# EAGLE library part TYPE-C-4PINPLUG-INBOARD-16PBOARD (library Insight Solutions-Connectors)
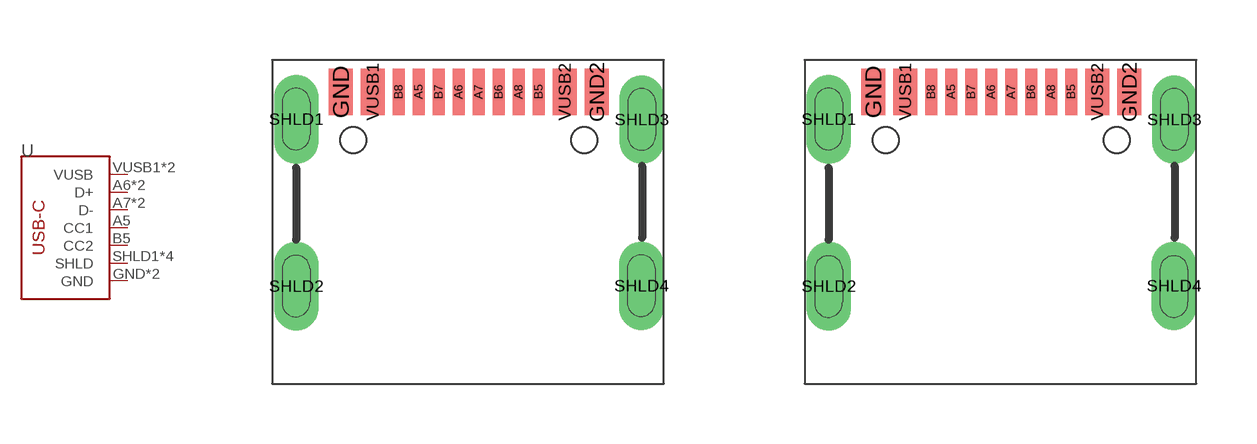
[diagram p0: symbol with the pads of TYPE-C-4PINPLUG-INBOARD-16PBOAR-4LAYERS; footprints TYPE-C-4PINPLUG-INBOARD-16PBOAR-4LAYERS, TYPE-C-4PINPLUG-INBOARD-16PBOAR-2LAYERS]

Designator prefix U

## TYPE-C-4PINPLUG-INBOARD-16PBOARD4LAYERS  [TYPE-C-4PINPLUG-INBOARD-16PBOAR-4LAYERS]
A5  CC1  pas
A6  D+  pas
A7  D-  pas
B5  CC2  pas
B6  D+  pas
B7  D-  pas
GND  GND  pas
GND2  GND  pas
SHLD1  SHLD  pas
SHLD2  SHLD  pas
SHLD3  SHLD  pas
SHLD4  SHLD  pas
VUSB1  VUSB  pas
VUSB2  VUSB  pas

## TYPE-C-4PINPLUG-INBOARD-16PBOARD2LAYERS  [TYPE-C-4PINPLUG-INBOARD-16PBOAR-2LAYERS]
Pads as for TYPE-C-4PINPLUG-INBOARD-16PBOAR-4LAYERS

## Footprint TYPE-C-4PINPLUG-INBOARD-16PBOAR-4LAYERS (pad centres in mm)
smd 0.3 x 1.15: A5 3.07,4.9; A6 4.07,4.9; A7 4.57,4.9; A8 5.57,4.9; B5 6.07,4.9; B6 5.07,4.9; B7 3.57,4.9; B8 2.57,4.9
smd 0.6 x 1.15: GND 1.12,4.9; GND2 7.52,4.9; VUSB1 1.92,4.9; VUSB2 6.72,4.9
drill 0.6 pad 0.9 long: SHLD1 0,4.215; SHLD2 0,0.035; SHLD3 8.64,4.205; SHLD4 8.63,0.045
hole 0.65 at 7.21,3.7
hole 0.65 at 1.43,3.7

## Footprint TYPE-C-4PINPLUG-INBOARD-16PBOAR-2LAYERS (pad centres in mm)
smd 0.3 x 1.15: A5 3.07,4.9; A6 4.07,4.9; A7 4.57,4.9; A8 5.57,4.9; B5 6.07,4.9; B6 5.07,4.9; B7 3.57,4.9; B8 2.57,4.9
smd 0.6 x 1.15: GND 1.12,4.9; GND2 7.52,4.9; VUSB1 1.92,4.9; VUSB2 6.72,4.9
drill 0.6 pad 0.9 long: SHLD1 0,4.215; SHLD2 0,0.035; SHLD3 8.64,4.205; SHLD4 8.63,0.045
hole 0.65 at 7.21,3.7
hole 0.65 at 1.43,3.7